# EAGLE library part CASTELLATIONS_TSOP-II-22P (library jrodrigo-gameboy)
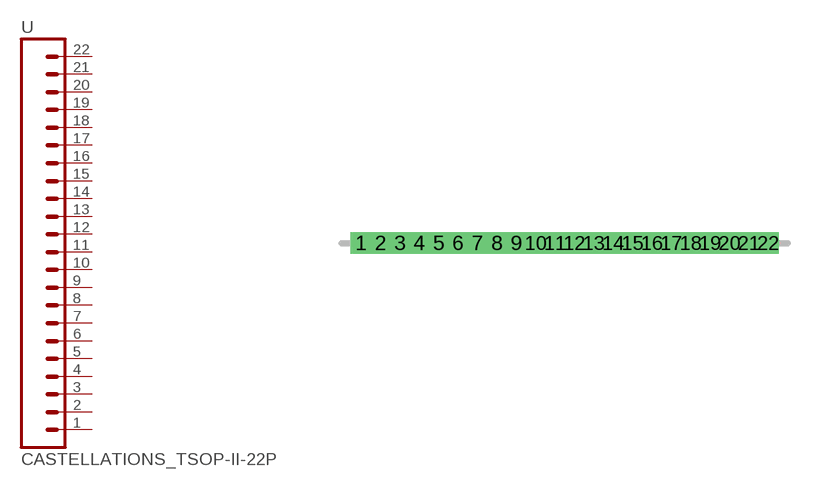
[diagram p8: symbol with the pads of CASTELLATIONS_22P_TSOP; footprint CASTELLATIONS_22P_TSOP]

Designator prefix -

## CASTELLATIONS_TSOP-II-22P  [CASTELLATIONS_22P_TSOP]
1  1  pas
2  2  pas
3  3  pas
4  4  pas
5  5  pas
6  6  pas
7  7  pas
8  8  pas
9  9  pas
10  10  pas
11  11  pas
12  12  pas
13  13  pas
14  14  pas
15  15  pas
16  16  pas
17  17  pas
18  18  pas
19  19  pas
20  20  pas
21  21  pas
22  22  pas

## Footprint CASTELLATIONS_22P_TSOP (pad centres in mm)
drill 0.356 pad 0.559 square: 1 0,0; 2 0.787,0; 3 1.575,0; 4 2.362,0; 5 3.15,0; 6 3.937,0; 7 4.724,0; 8 5.512,0; 9 6.299,0; 10 7.087,0; 11 7.874,0; 12 8.661,0; 13 9.449,0; 14 10.236,0; 15 11.024,0; 16 11.811,0; 17 12.598,0; 18 13.386,0; 19 14.173,0; 20 14.961,0; 21 15.748,0; 22 16.535,0